# Altium schematic symbol library power_supplies_dc_dc.SchLib: 36 symbols
Pins are listed as number, name and electrical type; pins without a type are passive.

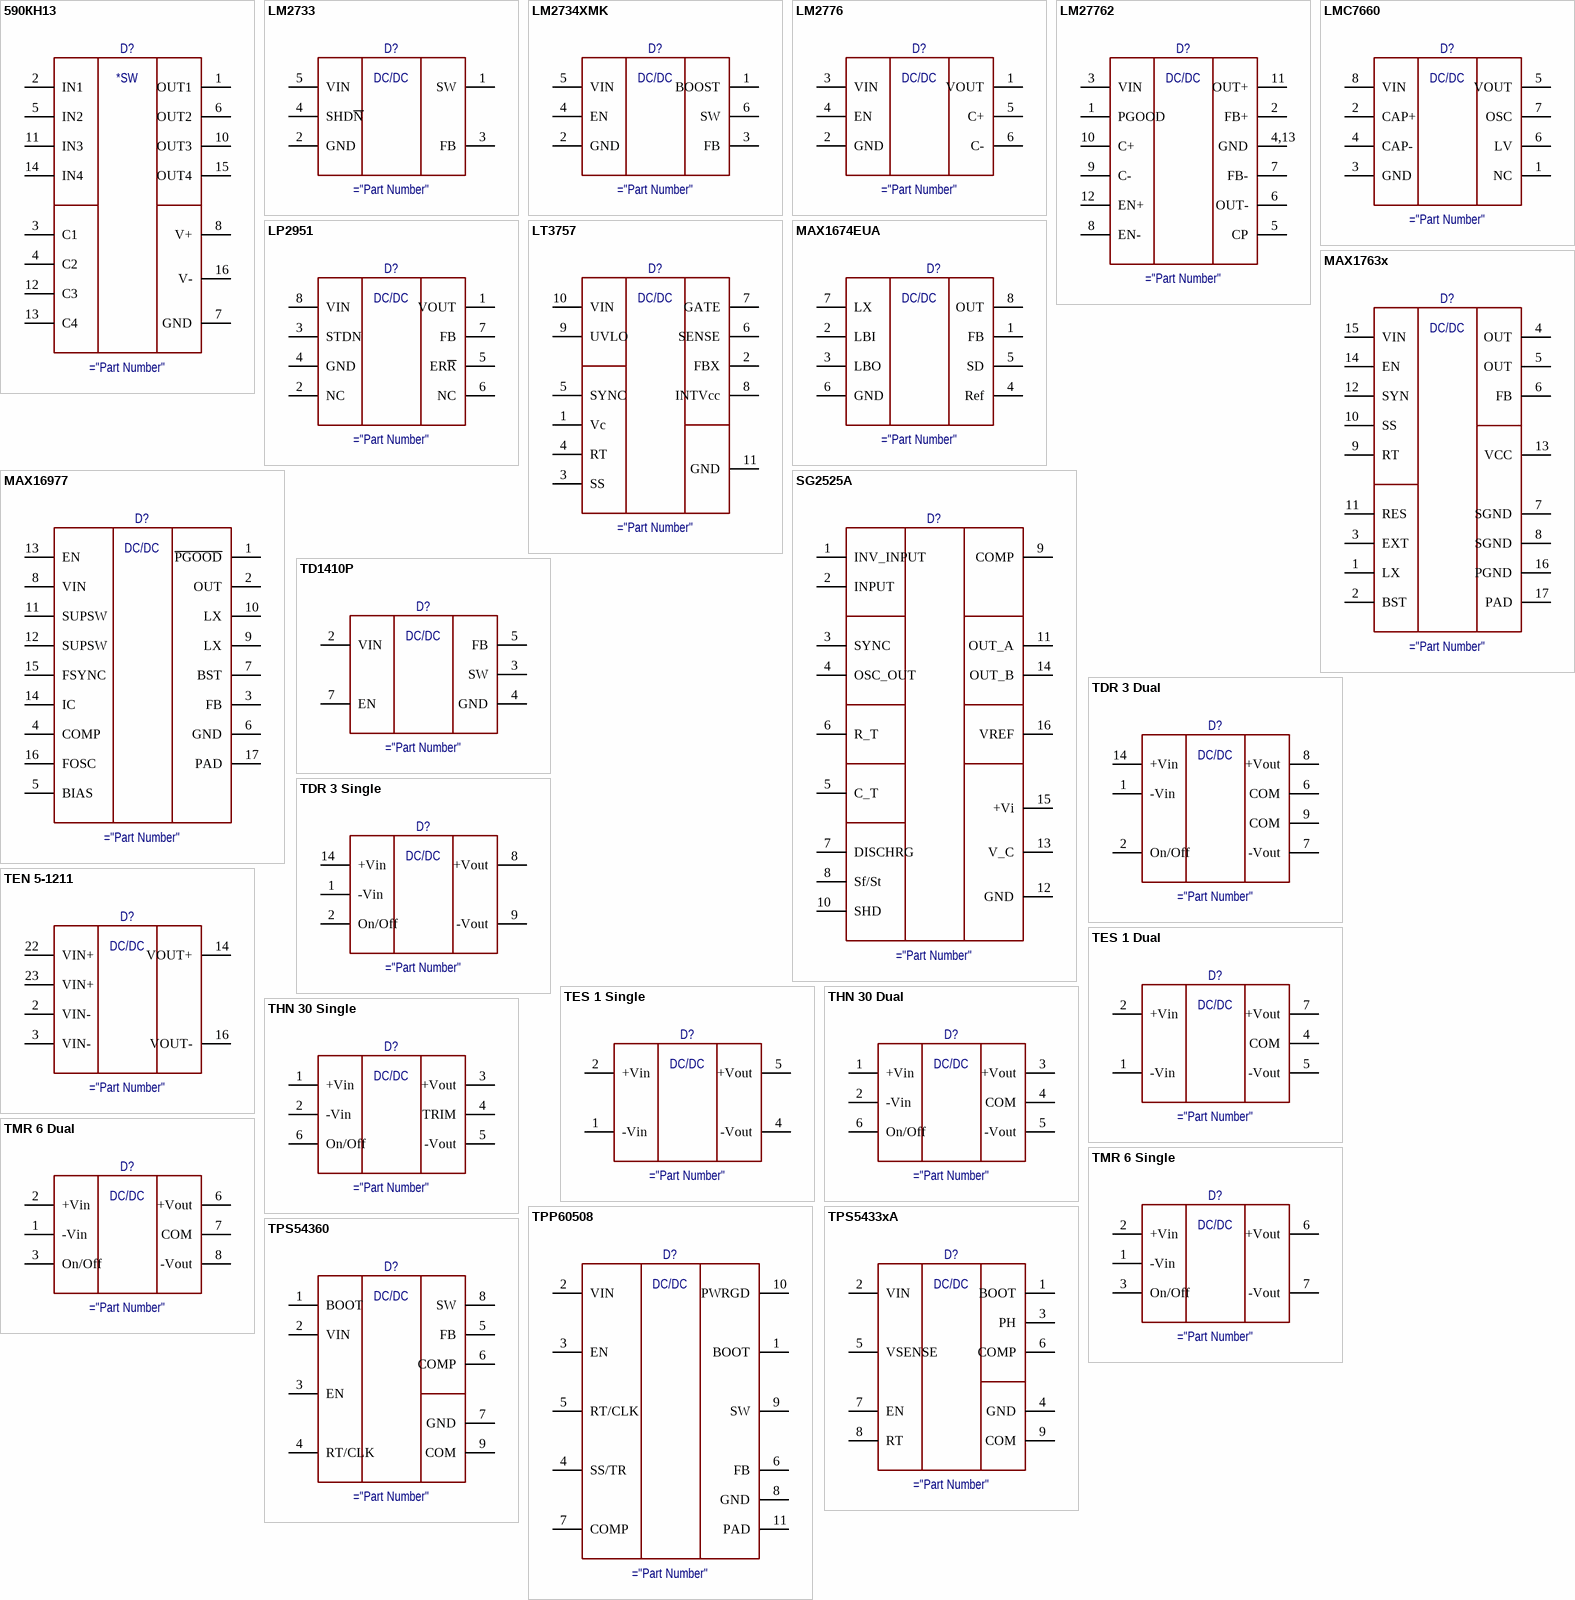
[diagram p0: symbols 590КН13 to TPS54360]

## 590КН13
designator D?
Switch
pins: 1 OUT1, 2 IN1, 3 C1, 4 C2, 5 IN2, 6 OUT2, 7 GND, 8 V+, 10 OUT3, 11 IN3, 12 C3, 13 C4, 14 IN4, 15 OUT4, 16 V-
text: *SW

## LM2733
designator D?
DC/DC 1 ch, 0.6/1.6 МHz boost converter / 40V in
pins: 1 SW, 2 GND, 3 FB, 4 SHD~{N}, 5 VIN
text: DC/DC

## LM2734XMK
designator D?
DC/DC 1A
pins: 1 BOOST, 2 GND, 3 FB, 4 EN, 5 VIN, 6 SW
text: DC/DC

## LM2776
designator D?
DC-DC Switched Capacitor Inverter
pins: 1 VOUT, 2 GND, 3 VIN, 4 EN, 5 C+, 6 C-
text: DC/DC

## LM27762
designator D?
Low-Noise Positive and Negative Output Integrated / Charge Pump Plus LDO
pins: 1 PGOOD, 2 FB+, 3 VIN, 4,13 GND, 5 CP, 6 OUT-, 7 FB-, 8 EN-, 9 C-, 10 C+, 11 OUT+, 12 EN+
text: DC/DC

## LMC7660
designator D?
DC-DC
pins: 1 NC, 2 CAP+, 3 GND, 4 CAP-, 5 VOUT, 6 LV, 7 OSC, 8 VIN
text: DC/DC

## LP2951
designator D?
DC-DC
pins: 1 VOUT, 2 NC, 3 STDN, 4 GND, 5 ER~{R}, 6 NC, 7 FB, 8 VIN
text: DC/DC

## LT3757
designator D?
pins: 1 Vc, 2 FBX, 3 SS, 4 RT, 5 SYNC, 6 SENSE, 7 GATE, 8 INTVcc, 9 UVLO, 10 VIN, 11 GND
text: DC/DC

## MAX1674EUA
designator D?
DC-DC
pins: 1 FB, 2 LBI, 3 LBO, 4 Ref, 5 SD, 6 GND, 7 LX, 8 OUT
text: DC/DC

## MAX1763x
designator D?
DC-DC step down
pins: 1 LX, 2 BST, 3 EXT, 4 OUT, 5 OUT, 6 FB, 7 SGND, 8 SGND, 9 RT, 10 SS, 11 RES, 12 SYN, 13 VCC, 14 EN, 15 VIN, 16 PGND, 17 PAD
text: DC/DC

## MAX16977
designator D?
DC-DC
pins: 1 ~{PGOOD}, 2 OUT, 3 FB, 4 COMP, 5 BIAS, 6 GND, 7 BST, 8 VIN, 9 LX, 10 LX, 11 SUPSW, 12 SUPSW, 13 EN, 14 IC, 15 FSYNC, 16 FOSC, 17 PAD
text: DC/DC

## SG2525A
designator D?
PWM
pins: 1 INV_INPUT, 2 INPUT, 3 SYNC, 4 OSC_OUT, 5 C_T, 6 R_T, 7 DISCHRG, 8 Sf/St, 9 COMP, 10 SHD, 11 OUT_A, 12 GND, 13 V_C, 14 OUT_B, 15 +Vi, 16 VREF

## TD1410P
designator D?
DC-DC
pins: 1 NC hidden, 2 VIN, 3 SW, 4 GND, 5 FB, 6 NC hidden, 7 EN, 8 NC hidden
text: DC/DC

## TDR 3 Dual
designator D?
DC/DC 2 ch, 3 Wt
pins: 1 -Vin, 2 On/Off, 6 COM, 7 -Vout, 8 +Vout, 9 COM, 14 +Vin
text: DC/DC

## TDR 3 Single
designator D?
DC/DC 1 ch, 3 Wt
pins: 1 -Vin, 2 On/Off, 6 NC hidden, 7 NC hidden, 8 +Vout, 9 -Vout, 14 +Vin
text: DC/DC

## TEN 5-1211
designator D?
DC-DC 1ch, 5V, 1A
pins: 2 VIN-, 3 VIN-, 11 NC hidden, 14 VOUT+, 16 VOUT-, 22 VIN+, 23 VIN+
text: DC/DC

## TES 1 Dual
designator D?
DC/DC 2ch, 1W
pins: 1 -Vin, 2 +Vin, 4 COM, 5 -Vout, 7 +Vout
text: DC/DC

## TES 1 Single
designator D?
DC/DC 1ch, 1W
pins: 1 -Vin, 2 +Vin, 4 -Vout, 5 +Vout
text: DC/DC

## THN 30 Dual
designator D?
DC/DC 2ch, 30W
pins: 1 +Vin, 2 -Vin, 3 +Vout, 4 COM, 5 -Vout, 6 On/Off
text: DC/DC

## THN 30 Single
designator D?
DC/DC 1ch, 30W
pins: 1 +Vin, 2 -Vin, 3 +Vout, 4 TRIM, 5 -Vout, 6 On/Off
text: DC/DC

## TMR 6 Dual
designator D?
DC/DC 2ch, 6W
pins: 1 -Vin, 2 +Vin, 3 On/Off, 6 +Vout, 7 COM, 8 -Vout
text: DC/DC

## TMR 6 Single
designator D?
DC/DC 1ch, 6W
pins: 1 -Vin, 2 +Vin, 3 On/Off, 6 +Vout, 7 -Vout
text: DC/DC

## TPP60508
designator D?
DC/DC
pins: 1 BOOT, 2 VIN, 3 EN, 4 SS/TR, 5 RT/CLK, 6 FB, 7 COMP, 8 GND, 9 SW, 10 PWRGD, 11 PAD

## TPS5433xA
designator D?
DC/DC 1 ch, 3 A
pins: 1 BOOT, 2 VIN, 3 PH, 4 GND, 5 VSENSE, 6 COMP, 7 EN, 8 RT, 9 COM
text: DC/DC

## TPS54360
designator D?
DC/DC 1 ch, 3.5 A
pins: 1 BOOT, 2 VIN, 3 EN, 4 RT/CLK, 5 FB, 6 COMP, 7 GND, 8 SW, 9 COM
text: DC/DC

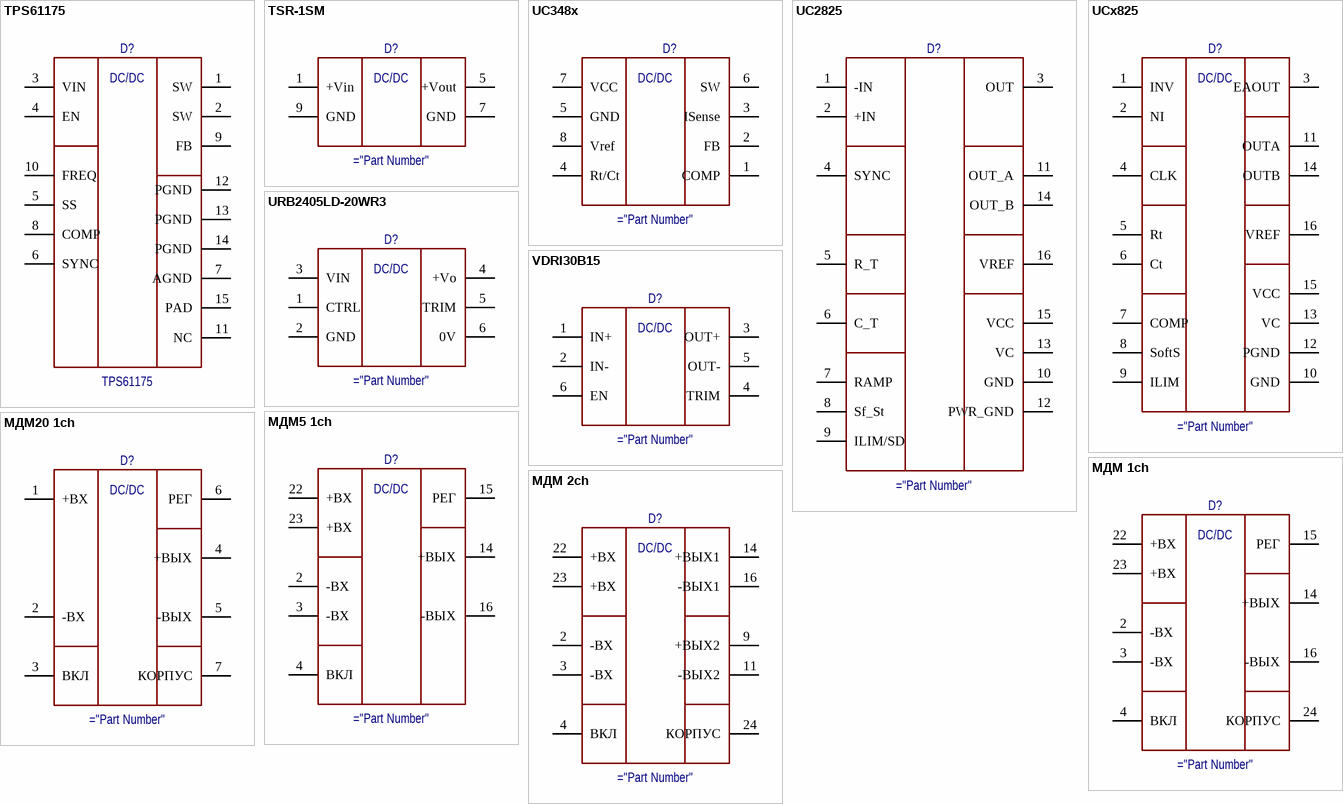
[diagram p1: symbols TPS61175 to МДМ 2ch]

## TPS61175
designator D?
3-A High-Voltage Boost Converter With Soft-Start and Programmable Switching / Frequency; Manufacturer: Texas Instruments; Part Number: TPS61175; Size: HTSSOP
pins: 1 SW, 2 SW, 3 VIN, 4 EN, 5 SS, 6 SYNC, 7 AGND, 8 COMP, 9 FB, 10 FREQ, 11 NC, 12 PGND, 13 PGND, 14 PGND, 15 PAD
text: DC/DC

## TSR-1SM
designator D?
DC/DC 1ch, 1A
pins: 1 +Vin, 5 +Vout, 7 GND, 9 GND
text: DC/DC

## UC348x
designator D?
DC-DC PWM buck-boost controller
pins: 1 COMP, 2 FB, 3 ISense, 4 Rt/Ct, 5 GND, 6 SW, 7 VCC, 8 Vref
text: DC/DC

## UC2825
designator D?
PWM
pins: 1 -IN, 2 +IN, 3 OUT, 4 SYNC, 5 R_T, 6 C_T, 7 RAMP, 8 Sf_St, 9 ILIM/SD, 10 GND, 11 OUT_A, 12 PWR_GND, 13 VC, 14 OUT_B, 15 VCC, 16 VREF

## UCx825
designator D?
DC-DC PWM buck-boost controller
pins: 1 INV, 2 NI, 3 EAOUT, 4 CLK, 5 Rt, 6 Ct, 7 COMP, 8 SoftS, 9 ILIM, 10 GND, 11 OUTA, 12 PGND, 13 VC, 14 OUTB, 15 VCC, 16 VREF
text: DC/DC

## URB2405LD-20WR3
designator D?
DC-DC Switched Capacitor Inverter
pins: 1 CTRL, 2 GND, 3 VIN, 4 +Vo, 5 TRIM, 6 0V
text: DC/DC

## VDRI30B15
designator D?
DC-DC
pins: 1 IN+, 2 IN-, 3 OUT+, 4 TRIM, 5 OUT-, 6 EN
text: DC/DC

## МДМ5 1ch
designator D?
DC-DC 1ch
pins: 2 -ВХ, 3 -ВХ, 4 ВКЛ, 9 hidden, 11 hidden, 14 +ВЫХ, 15 РЕГ, 16 -ВЫХ, 22 +ВХ, 23 +ВХ
text: DC/DC

## МДМ20 1ch
designator D?
DC-DC 1ch
pins: 1 +ВХ, 2 -ВХ, 3 ВКЛ, 4 +ВЫХ, 5 -ВЫХ, 6 РЕГ, 7 КОРПУС
text: DC/DC

## МДМ 1ch
designator D?
DC-DC 1ch
pins: 2 -ВХ, 3 -ВХ, 4 ВКЛ, 9 hidden, 11 hidden, 14 +ВЫХ, 15 РЕГ, 16 -ВЫХ, 22 +ВХ, 23 +ВХ, 24 КОРПУС
text: DC/DC

## МДМ 2ch
designator D?
DC-DC 2ch
pins: 2 -ВХ, 3 -ВХ, 4 ВКЛ, 9 +ВЫХ2, 11 -ВЫХ2, 14 +ВЫХ1, 16 -ВЫХ1, 22 +ВХ, 23 +ВХ, 24 КОРПУС
text: DC/DC